# Altium footprint library MyPCB_Lib.PcbLib: 26 footprints (part 2 of 2)
Each footprint in its own frame and in the unit in brackets; x right, y up, seen from the top. Pads: shape width x height; smd on the part's side, far side on the other; paste and mask are expansions set on the pad; w line width, h text height; cw(c..) or ccw(c..) is an arc to the next point about the centre after c.
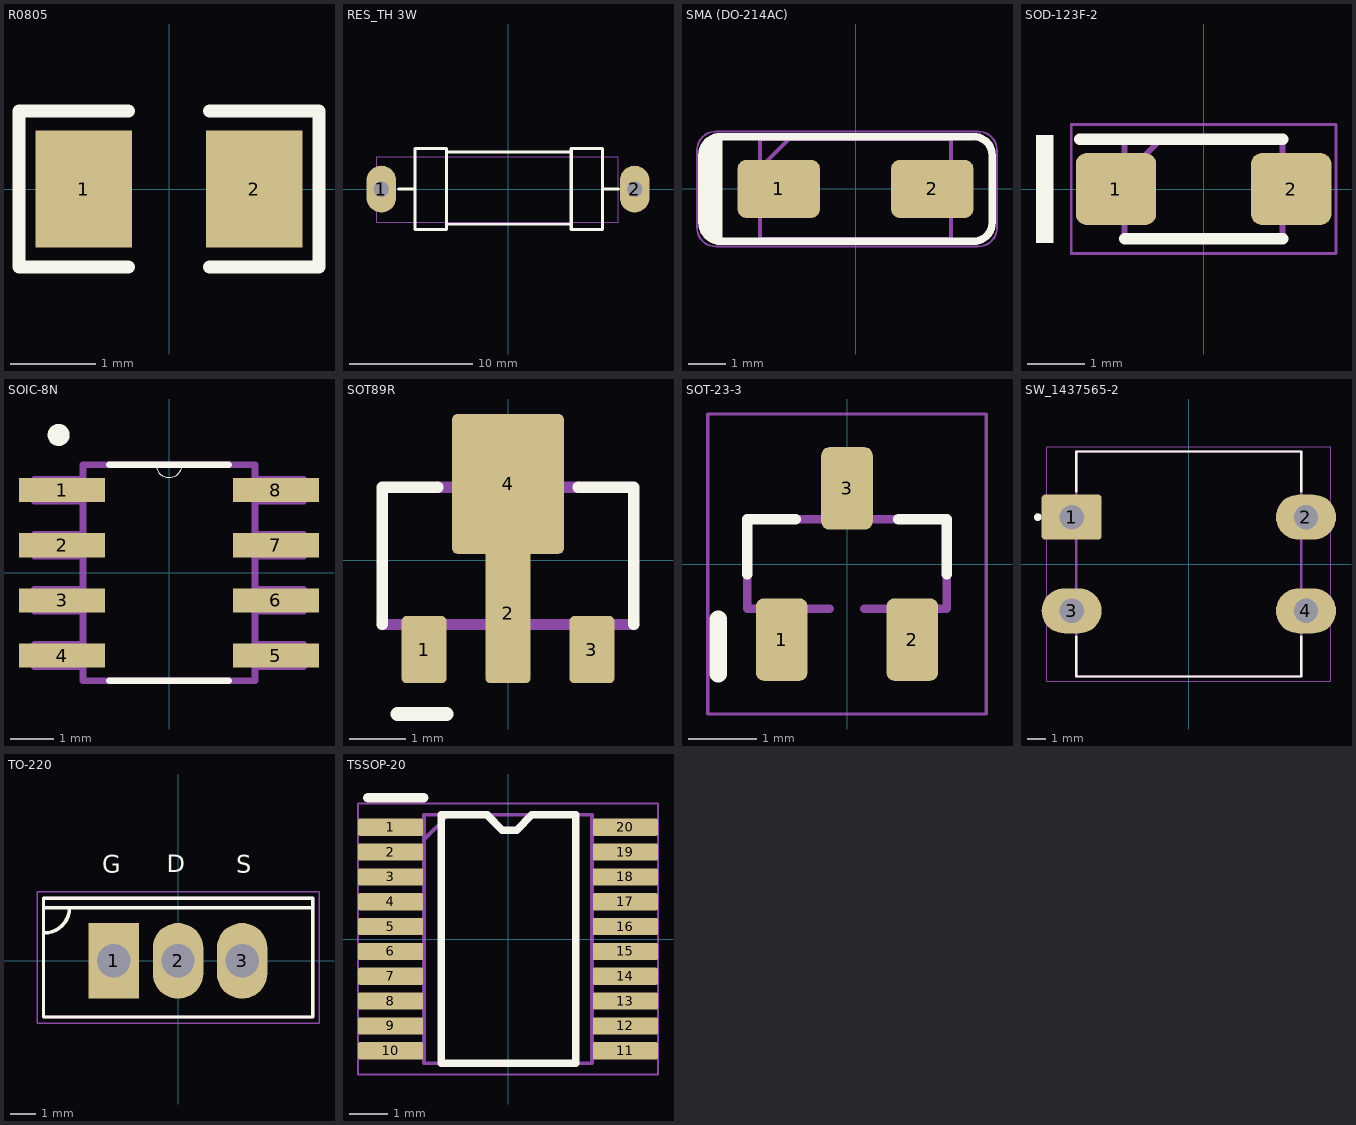
[diagram p1: the footprints below, top view; thin cyan lines are the x and y axes]

## R0805 [mm]
pads (2):
  rect 1.133x1.377 smd paste-100 mask+0.051: 1(-1,0) 2(1,0)
Top Overlay:
  lines w0.152: -0.476,-0.917 -1.761,-0.917 -1.761,0.917 -0.476,0.917 ; 0.476,-0.917 1.761,-0.917 1.761,0.917 0.476,0.917

## RES_TH 3W [mm] "Res_TH 3W"
pads (2):
  oval 2.413x3.81 hole 1.27: 1(-10.3,0) 2(10.3,0)
Top Overlay:
  lines w0.2: -4.971,-2.841 5.179,-2.841
  lines w0.25: -8.9,0.009 -7.566,0.009 ; -5.016,3.009 5.147,3.009 ; 7.765,0.009 9,0.009 ; -7.557,-3.291 -5.016,-3.291 -5.016,3.309 -7.557,3.309 -7.557,-3.291 ; 5.147,-3.291 7.687,-3.291 7.687,3.309 5.147,3.309 5.147,-3.291
Top Courtyard:
  lines w0.051: -10.693,-2.692 -10.693,2.616 8.967,2.616 8.967,-0.889 8.967,-2.692 -2.971,-2.692 -10.693,-2.692
3D body "Resistor_15R_to_Proteus.STEP": height 5.72, standoff -1.67, extent -10.235,-2.365 8.25,2.415

## SMA (DO-214AC) [mm] "SMA (DO-214AC)"
pads (2):
  rrect30% 2.2x1.55 smd: 1(-2.05,0) 2(2.05,0)
Top Overlay:
  rectangle: -3.86,-1.4 -3.555,1.4
  region: -4.1,0.9 -4.1,0.962 -4.076,1.084 -4.028,1.198 -3.959,1.301 -3.916,1.345 -3.861,1.4 -3.6,1.4 -3.6,-1.4 -3.624,-1.4 -3.67,-1.391 -3.714,-1.373 -3.754,-1.346 -3.771,-1.329 -4,-1.1 -4.024,-1.076 -4.061,-1.02 -4.087,-0.958 -4.1,-0.892 -4.1,-0.859 -4.1,0.6
  lines w0.2: -4.1,-0.9 ccw(c-3.6,-0.9) -3.6,-1.4 3.15,-1.4 ccw(c3.15,-0.9) 3.65,-0.9 3.65,0.9 ccw(c3.15,0.9) 3.15,1.4 -3.6,1.4 ccw(c-3.6,0.9) -4.1,0.9 -4.1,-0.9
Top Assembly:
  lines w0.1: -2.552,0.558 -1.778,1.332 ; -2.552,-1.332 2.552,-1.332 2.552,1.332 -2.552,1.332 -2.552,-1.332
Top Courtyard:
  lines w0.05: -4.232,-1.037 ccw(c-3.732,-1.037) -3.732,-1.537 3.278,-1.537 ccw(c3.278,-1.037) 3.778,-1.037 3.778,1.034 ccw(c3.278,1.034) 3.278,1.534 -3.732,1.534 ccw(c-3.732,1.034) -4.232,1.034 -4.232,-1.037
3D body "B340A-E3_61T.stp": height 2.29, standoff 0, extent -2.552,-1.332 2.552,1.332

## SOD-123F-2 [mm] "SODFL3617X108N"
pads (2):
  rrect30% 1.4x1.25 smd: 1(-1.525,0) 2(1.525,0)
Top Overlay:
  rectangle: -2.918,-0.94 -2.613,0.94
  lines w0.2: -2.155,0.862 1.375,0.862 ; -1.375,-0.862 1.375,-0.862
Top Assembly:
  lines w0.1: -1.375,0.232 -0.745,0.862 ; -1.375,-0.862 1.375,-0.862 1.375,0.862 -1.375,0.862 -1.375,-0.862
Top Courtyard:
  lines w0.05: -2.305,-1.125 2.305,-1.125 2.305,1.125 -2.305,1.125 -2.305,-1.125
3D body "MBR1020VL.stp": height 1.08, standoff 0, extent -1.8,-0.863 1.8,0.863

## SOIC-8N [mil]
pads (8):
  rect 78x22 smd: 1(-97,75) 2(-97,25) 3(-97,-25) 4(-97,-75) 5(97,-75) 6(97,-25) 7(97,25) 8(97,75)
Top Overlay:
  circle w10: c-100,125 r5
  lines w0: -12,98.08 ccw(c0,98.5) 12,98.92
  lines w6: -54,-98 54,-98 ; -54,98 -12,98 54,98
Top Assembly:
  lines w0: -12,98.08 ccw(c0,98.5) 12,98.92
  lines w6: -122,-85 -78,-85 -78,-65 -122,-65 -122,-85 ; -122,-35 -78,-35 -78,-15 -122,-15 -122,-35 ; -122,15 -78,15 -78,35 -122,35 -122,15 ; -122,65 -78,65 -78,85 -122,85 -122,65 ; -78,-98 -78,98 -12,98 78,98 78,-98 -78,-98 ; 78,-85 122,-85 122,-65 78,-65 78,-85 ; 78,-35 122,-35 122,-15 78,-15 78,-35 ; 78,15 122,15 122,35 78,35 78,15 ; 78,65 122,65 122,85 78,85 78,65
3D body "step_temp.STEP": height 67.32, standoff 0, extent -122.05,-98.43 122.05,98.43

## SOT89R [mm]
pads (4):
  rrect20% 0.8x1.2 smd: 1(-1.5,-1.6) 3(1.5,-1.6)
  rrect20% 0.8x2.5 smd paste-2 mask+0: 2(0,-0.95)
  rrect10% 2x2.5 smd: 4(0,1.36)
Top Overlay:
  lines w0.203: -2.25,-1.15 -2.25,1.3 -1.25,1.3 ; 1.25,1.3 2.25,1.3 2.25,-1.15
  lines w0.25: -1.975,-2.75 -1.1,-2.75
Top Paste:
  region: 0.4,-2.206 -0.401,-2.206 -0.401,-1 0.4,-1
Top Solder:
  region: 0.5,-2.303 -0.501,-2.303 -0.501,-0.9 0.5,-0.9
Top Assembly:
  region: 0.787,1.675 0.787,1.395 -0.787,1.395 -0.787,1.675 -0.356,2.107 0.356,2.107
  region: 0.279,-2.011 -0.28,-2.011 -0.28,-1.17 0.279,-1.17
  region: 1.727,-2.014 1.274,-2.014 1.274,-1.17 1.727,-1.17
  region: -1.27,-2.011 -1.729,-2.011 -1.729,-1.17 -1.27,-1.17
  lines w0.203: -2.25,-1.15 2.25,-1.15 ; -1.25,1.3 1.25,1.3 ; -0.787,1.395 -0.787,1.675 -0.356,2.107 0.356,2.107 0.787,1.675 0.787,1.395 -0.787,1.395
3D body "BCX56,135.STEP": height 1.6, standoff 0, extent -2.25,-1.75 2.25,2.25

## SOT-23-3 [mm]
pads (3):
  rrect30% 0.75x1.2 smd: 1(-0.95,-1.1) 2(0.95,-1.1) 3(0,1.1)
Top Overlay:
  lines w0.155: -1.45,-0.15 -1.45,0.65 -0.75,0.65 ; 0.75,0.65 1.45,0.65 1.45,-0.15
  lines w0.25: -1.875,-1.6 -1.875,-0.8
Top Assembly:
  region: 0.229,0.711 -0.229,0.711 -0.229,1.295 0.229,1.295
  region: 1.168,-1.296 0.712,-1.296 0.712,-0.711 1.168,-0.711
  region: -0.711,-1.298 -1.171,-1.298 -1.171,-0.711 -0.711,-0.711
  lines w0.127: -1.45,-0.15 -1.45,-0.65 -0.25,-0.65 ; -0.75,0.65 0.75,0.65 ; 0.25,-0.65 1.45,-0.65 1.45,-0.15
Top Courtyard:
  lines w0.051: -2.023,-2.183 2.023,-2.183 2.023,2.183 -2.023,2.183 -2.023,-2.183
3D body "SS8050-G.stp": height 1.15, standoff 0, extent -1.45,-1.175 1.45,1.225

## SW_1437565-2 [mm]
pads (4):
  rrect15% 3.2x2.4 hole 1.3: 1(-6.25,2.5)
  oval 3.2x2.4 hole 1.3: 2(6.25,2.5) 3(-6.25,-2.5) 4(6.25,-2.5)
Top Overlay:
  circle w0.2: c-8.05,2.5 r0.1
  lines w0.127: -6,-3.87 -6,-6 6,-6 6,-3.87 ; -6,3.87 -6,6 6,6 6,3.87
Top Assembly:
  circle w0.2: c-8.05,2.5 r0.1
  lines w0.127: -6,-6 6,-6 6,6 -6,6 -6,-6
Top Courtyard:
  lines w0.05: -7.575,-6.25 7.575,-6.25 7.575,6.25 -7.575,6.25 -7.575,-6.25
3D body "c-1437565-2-e-3d.stp": height 4.44, standoff -3.46, extent -7.045,-6 7.045,6

## TO-220 [mm] "TO-220"
pads (3):
  rect 2x3 hole 1.32: 1(-2.54,0)
  oval 2x3 hole 1.32: 2(0,0) 3(2.54,0)
Top Overlay:
  lines w0.127: -5.335,-2.225 5.335,-2.225 5.335,2.475 -5.335,2.475 -5.335,-2.225
  lines w0.15: -5.3,1.1 ccw(c-5.3,2.1) -4.3,2.1 ; -5.3,2.1 5.3,2.1
  text "G" at -2.997,3.484 h0.7
  text "D" at -0.456,3.501 h0.7
  text "S" at 2.308,3.484 h0.7
Top Assembly:
  lines w0.127: -5.335,-2.225 -5.335,2.475 5.335,2.475 5.335,-2.225 -5.335,-2.225
Top Courtyard:
  lines w0.05: -5.585,-2.475 -5.585,2.725 5.585,2.725 5.585,-2.475 -5.585,-2.475
3D body "step_temp.STEP": height 19.68, standoff -10.34, extent -4.985,-1.759 4.985,2.686

## TSSOP-20 [mm]
pads (20):
  rrect20% 1.7x0.45 smd: 1(-3.07,2.925) 2(-3.07,2.275) 3(-3.07,1.625) 4(-3.07,0.975) 5(-3.07,0.325) 6(-3.07,-0.325) 7(-3.07,-0.975) 8(-3.07,-1.625) 9(-3.07,-2.275) 10(-3.07,-2.925) 11(3.07,-2.925) 12(3.07,-2.275) 13(3.07,-1.625) 14(3.07,-0.975) 15(3.07,-0.325) 16(3.07,0.325) 17(3.07,0.975) 18(3.07,1.625) 19(3.07,2.275) 20(3.07,2.925)
Top Overlay:
  lines w0.2: -1.75,-3.25 -1.75,3.25 -0.55,3.25 -0.15,2.85 0.225,2.85 0.625,3.25 1.775,3.25 1.775,-3.25 -1.75,-3.25
  lines w0.25: -3.675,3.7 -2.2,3.7
Top Assembly:
  lines w0.05: -3.925,-3.55 3.925,-3.55 3.925,3.55 -3.925,3.55 -3.925,-3.55
  lines w0.1: -2.2,2.6 -1.55,3.25 ; -2.2,-3.25 2.2,-3.25 2.2,3.25 -2.2,3.25 -2.2,-3.25
3D body "step_temp.STEP": height 1.16, standoff -0.04, extent -3.2,-3.25 3.2,3.25